# Altium schematic symbol library mw.SchLib: 179 symbols (part 2 of 2)
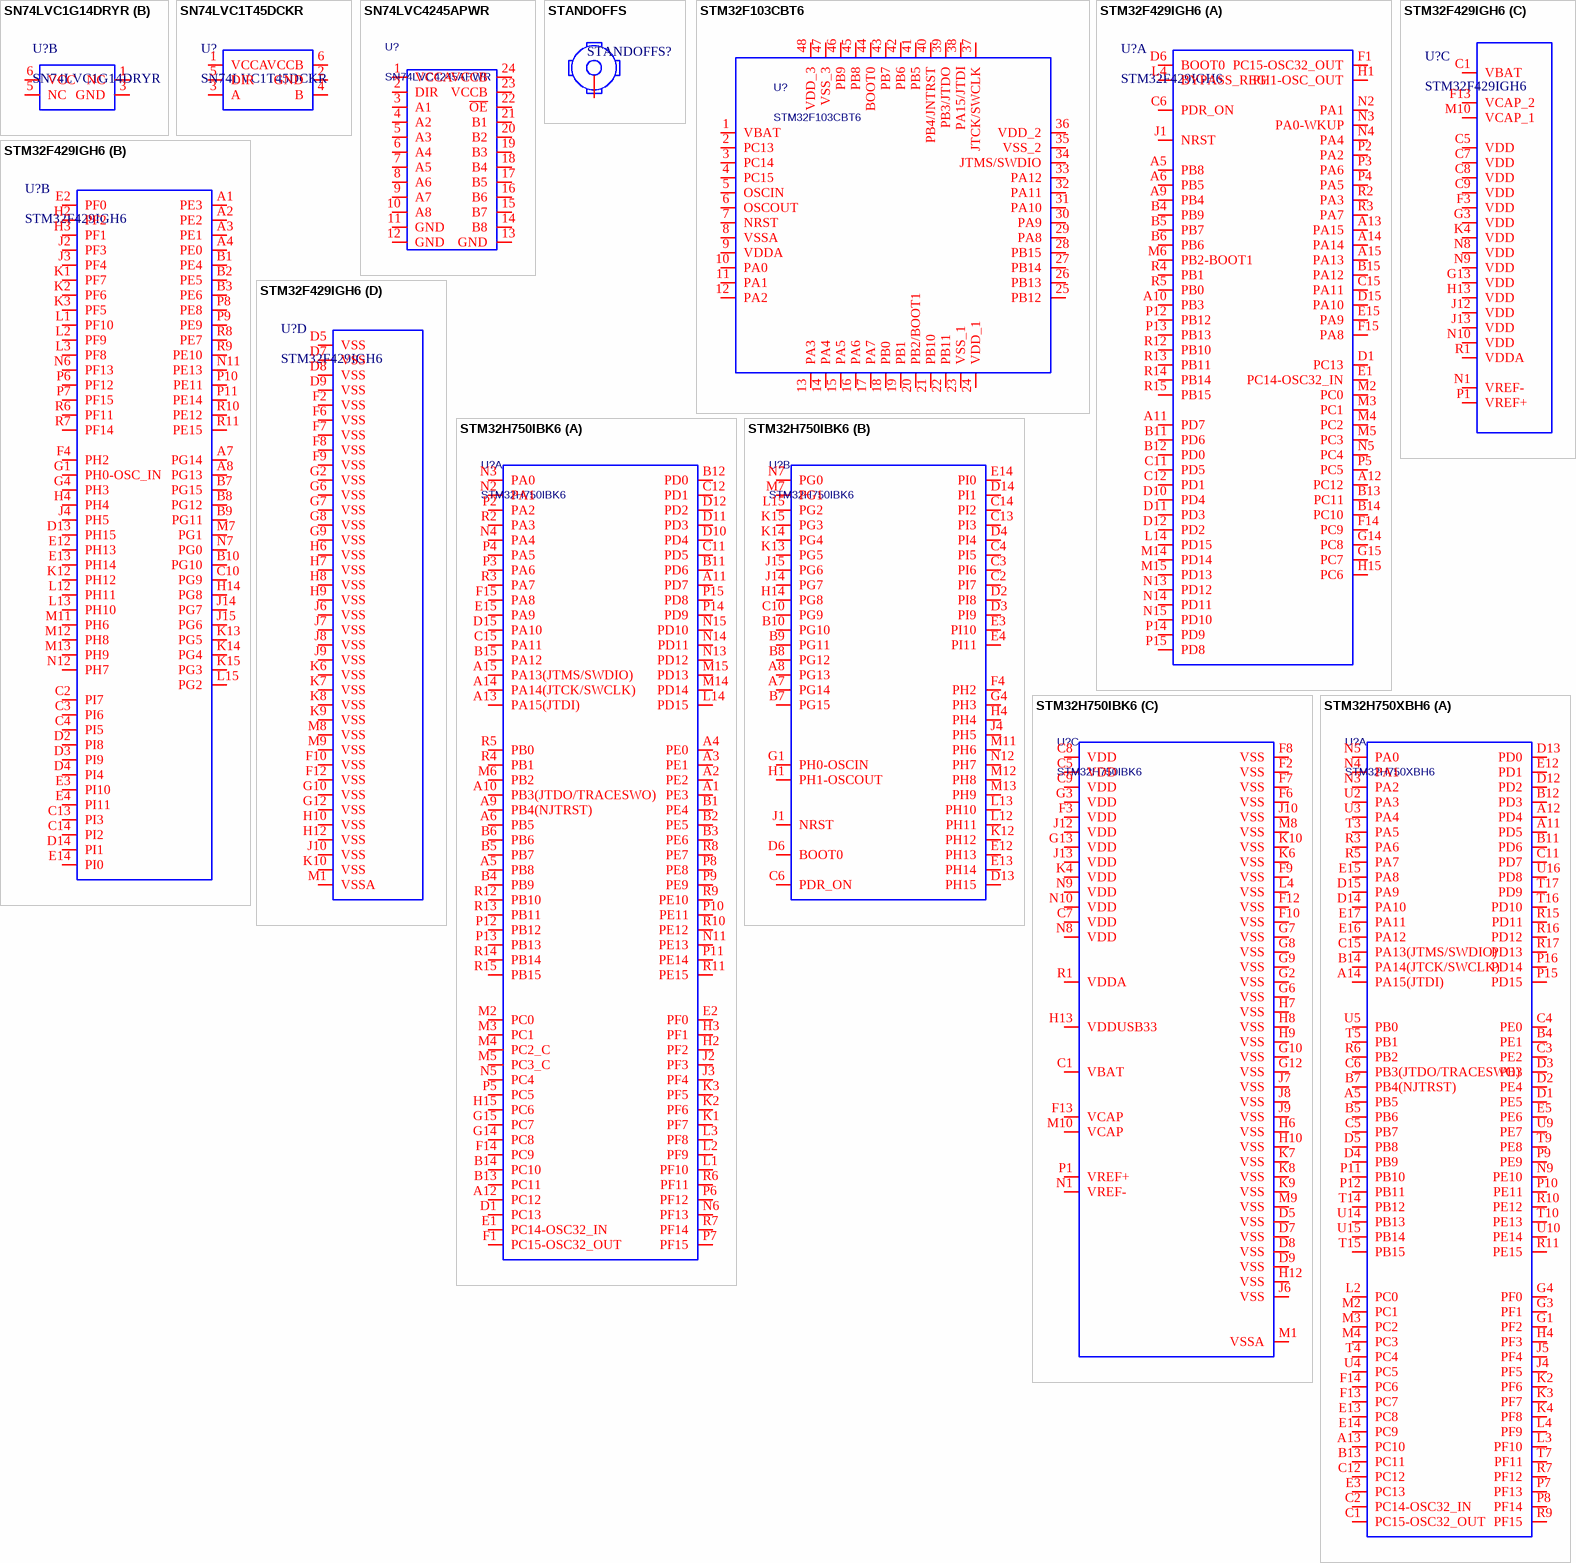
[diagram p8: symbols SN74LVC1G14DRYR to STM32H750XBH6]

## SN74LVC1G14DRYR
designator U?
INVERTER - 1bit schmitt; Supplier 1: LCSC; Supplier Part Number 1: C2878125
footprint SN74LVC1G14DRYR (PSON, 6-Leads, Body 1.45x1.00mm, Pitch 0.50mm, IPC Medium Density)
part A pins: 2 A, 4 Y
part B pins: 1 NC, 3 GND, 5 NC, 6 VCC

## SN74LVC1T45DCKR
designator U?
LEVEL SHIFT - 1bit, 1.65 - 5.5V, 420Mbps; Supplier 1: LCSC; Supplier Part Number 1: C9382
footprint SN74LVC1T45DCKR
pins: 1 VCCA, 2 GND, 3 A, 4 B, 5 DIR, 6 VCCB

## SN74LVC4245APWR
designator U?
LEVEL SHIFT; Supplier 1: LCSC; Supplier Part Number 1: C7859
footprint SN74LVC4245APWR (TSOP, 24-Leads, Body 7.80x4.47mm, Pitch 0.65mm, IPC High Density)
pins: 1 VCCA, 2 DIR, 3 A1, 4 A2, 5 A3, 6 A4, 7 A5, 8 A6, 9 A7, 10 A8, 11 GND, 12 GND, 13 GND, 14 B8, 15 B7, 16 B6, 17 B5, 18 B4, 19 B3, 20 B2, 21 B1, 22 ~{OE}, 23 VCCB, 24 VCCB

## STANDOFFS
designator STANDOFFS?
footprint STANDOFFS-5-2.5 (外径5 台阶外径2.5)
pins: 0

## STM32F103CBT6
designator U?
MCU; Supplier 1: LCSC; Supplier Part Number 1: C8304
footprint STM32F103CBT6
pins: 1 VBAT, 2 PC13, 3 PC14, 4 PC15, 5 OSCIN, 6 OSCOUT, 7 NRST, 8 VSSA, 9 VDDA, 10 PA0, 11 PA1, 12 PA2, 13 PA3, 14 PA4, 15 PA5, 16 PA6, 17 PA7, 18 PB0, 19 PB1, 20 PB2/BOOT1, 21 PB10, 22 PB11, 23 VSS_1, 24 VDD_1, 25 PB12, 26 PB13, 27 PB14, 28 PB15, 29 PA8, 30 PA9, 31 PA10, 32 PA11, 33 PA12, 34 JTMS/SWDIO, 35 VSS_2, 36 VDD_2, 37 JTCK/SWCLK, 38 PA15/JTDI, 39 PB3/JTDO, 40 PB4/JNTRST, 41 PB5, 42 PB6, 43 PB7, 44 BOOT0, 45 PB8, 46 PB9, 47 VSS_3, 48 VDD_3

## STM32F429IGH6
designator U?
MCU; Supplier 1: LCSC; Supplier Part Number 1: C1337486
footprint STM32F429IGH6 (BGA176, Pitch 0.65mm, 10mmx10mm)
part A pins: A5 PB8, A6 PB5, A9 PB4, A10 PB3, A11 PD7, A12 PC12, A13 PA15, A14 PA14, A15 PA13, B4 PB9, B5 PB7, B6 PB6, B11 PD6, B12 PD0, B13 PC11, B14 PC10, B15 PA12, C6 PDR_ON, C11 PD5, C12 PD1, C15 PA11, D1 PC13, D6 BOOT0, D10 PD4, D11 PD3, D12 PD2, D15 PA10, E1 PC14-OSC32_IN, E15 PA9, F1 PC15-OSC32_OUT, F14 PC9, F15 PA8, G14 PC8, G15 PC7, H1 PH1-OSC_OUT, H15 PC6, J1 NRST, L4 BYPASS_REG, L14 PD15, M2 PC0, M3 PC1, M4 PC2, M5 PC3, M6 PB2-BOOT1, M14 PD14, M15 PD13, N2 PA1, N3 PA0-WKUP, N4 PA4, N5 PC4, N13 PD12, N14 PD11, N15 PD10, P2 PA2, P3 PA6, P4 PA5, P5 PC5, P12 PB12, P13 PB13, P14 PD9, P15 PD8, R2 PA3, R3 PA7, R4 PB1, R5 PB0, R12 PB10, R13 PB11, R14 PB14, R15 PB15
part B pins: A1 PE3, A2 PE2, A3 PE1, A4 PE0, A7 PG14, A8 PG13, B1 PE4, B2 PE5, B3 PE6, B7 PG15, B8 PG12, B9 PG11, B10 PG10, C2 PI7, C3 PI6, C4 PI5, C10 PG9, C13 PI3, C14 PI2, D2 PI8, D3 PI9, D4 PI4, D13 PH15, D14 PI1, E2 PF0, E3 PI10, E4 PI11, E12 PH13, E13 PH14, E14 PI0, F4 PH2, G1 PH0-OSC_IN, G4 PH3, H2 PF2, H3 PF1, H4 PH4, H14 PG8, J2 PF3, J3 PF4, J4 PH5, J14 PG7, J15 PG6, K1 PF7, K2 PF6, K3 PF5, K12 PH12, K13 PG5, K14 PG4, K15 PG3, L1 PF10, L2 PF9, L3 PF8, L12 PH11, L13 PH10, L15 PG2, M7 PG1, M11 PH6, M12 PH8, M13 PH9, N6 PF13, N7 PG0, N11 PE13, N12 PH7, P6 PF12, P7 PF15, P8 PE8, P9 PE9, P10 PE11, P11 PE14, R6 PF11, R7 PF14, R8 PE7, R9 PE10, R10 PE12, R11 PE15
part C pins: C1 VBAT (power), C5 VDD (power), C7 VDD (power), C8 VDD (power), C9 VDD (power), F3 VDD (power), F13 VCAP_2 (power), G3 VDD (power), G13 VDD (power), H13 VDD (power), J12 VDD (power), J13 VDD (power), K4 VDD (power), M10 VCAP_1 (power), N1 VREF- (power), N8 VDD (power), N9 VDD (power), N10 VDD (power), P1 VREF+ (power), R1 VDDA (power)
part D pins: D5 VSS (power), D7 VSS (power), D8 VSS (power), D9 VSS (power), F2 VSS (power), F6 VSS (power), F7 VSS (power), F8 VSS (power), F9 VSS (power), F10 VSS (power), F12 VSS (power), G2 VSS (power), G6 VSS (power), G7 VSS (power), G8 VSS (power), G9 VSS (power), G10 VSS (power), G12 VSS (power), H6 VSS (power), H7 VSS (power), H8 VSS (power), H9 VSS (power), H10 VSS (power), H12 VSS (power), J6 VSS (power), J7 VSS (power), J8 VSS (power), J9 VSS (power), J10 VSS (power), K6 VSS (power), K7 VSS (power), K8 VSS (power), K9 VSS (power), K10 VSS (power), M1 VSSA (power), M8 VSS (power), M9 VSS (power)

## STM32H750IBK6
designator U?
MCU; Supplier 1: LCSC; Supplier Part Number 1: C730200
footprint STM32H750IBK6
part A pins: A1 PE3, A2 PE2, A3 PE1, A4 PE0, A5 PB8, A6 PB5, A9 PB4(NJTRST), A10 PB3(JTDO/TRACESWO), A11 PD7, A12 PC12, A13 PA15(JTDI), A14 PA14(JTCK/SWCLK), A15 PA13(JTMS/SWDIO), B1 PE4, B2 PE5, B3 PE6, B4 PB9, B5 PB7, B6 PB6, B11 PD6, B12 PD0, B13 PC11, B14 PC10, B15 PA12, C11 PD5, C12 PD1, C15 PA11, D1 PC13, D10 PD4, D11 PD3, D12 PD2, D15 PA10, E1 PC14-OSC32_IN, E2 PF0, E15 PA9, F1 PC15-OSC32_OUT, F14 PC9, F15 PA8, G14 PC8, G15 PC7, H2 PF2, H3 PF1, H15 PC6, J2 PF3, J3 PF4, K1 PF7, K2 PF6, K3 PF5, L1 PF10, L2 PF9, L3 PF8, L14 PD15, M2 PC0, M3 PC1, M4 PC2_C, M5 PC3_C, M6 PB2, M14 PD14, M15 PD13, N2 PA1, N3 PA0, N4 PA4, N5 PC4, N6 PF13, N11 PE13, N13 PD12, N14 PD11, N15 PD10, P2 PA2, P3 PA6, P4 PA5, P5 PC5, P6 PF12, P7 PF15, P8 PE8, P9 PE9, P10 PE11, P11 PE14, P12 PB12, P13 PB13, P14 PD9, P15 PD8, R2 PA3, R3 PA7, R4 PB1, R5 PB0, R6 PF11, R7 PF14, R8 PE7, R9 PE10, R10 PE12, R11 PE15, R12 PB10, R13 PB11, R14 PB14, R15 PB15
part B pins: A7 PG14, A8 PG13, B7 PG15, B8 PG12, B9 PG11, B10 PG10, C2 PI7, C3 PI6, C4 PI5, C6 PDR_ON, C10 PG9, C13 PI3, C14 PI2, D2 PI8, D3 PI9, D4 PI4, D6 BOOT0, D13 PH15, D14 PI1, E3 PI10, E4 PI11, E12 PH13, E13 PH14, E14 PI0, F4 PH2, G1 PH0-OSCIN, G4 PH3, H1 PH1-OSCOUT, H4 PH4, H14 PG8, J1 NRST, J4 PH5, J14 PG7, J15 PG6, K12 PH12, K13 PG5, K14 PG4, K15 PG3, L12 PH11, L13 PH10, L15 PG2, M7 PG1, M11 PH6, M12 PH8, M13 PH9, N7 PG0, N12 PH7
part C pins: C1 VBAT, C5 VDD, C7 VDD, C8 VDD, C9 VDD, D5 VSS, D7 VSS, D8 VSS, D9 VSS, F2 VSS, F3 VDD, F6 VSS, F7 VSS, F8 VSS, F9 VSS, F10 VSS, F12 VSS, F13 VCAP, G2 VSS, G3 VDD, G6 VSS, G7 VSS, G8 VSS, G9 VSS, G10 VSS, G12 VSS, G13 VDD, H6 VSS, H7 VSS, H8 VSS, H9 VSS, H10 VSS, H12 VSS, H13 VDDUSB33, J6 VSS, J7 VSS, J8 VSS, J9 VSS, J10 VSS, J12 VDD, J13 VDD, K4 VDD, K6 VSS, K7 VSS, K8 VSS, K9 VSS, K10 VSS, L4 VSS, M1 VSSA, M8 VSS, M9 VSS, M10 VCAP, N1 VREF-, N8 VDD, N9 VDD, N10 VDD, P1 VREF+, R1 VDDA

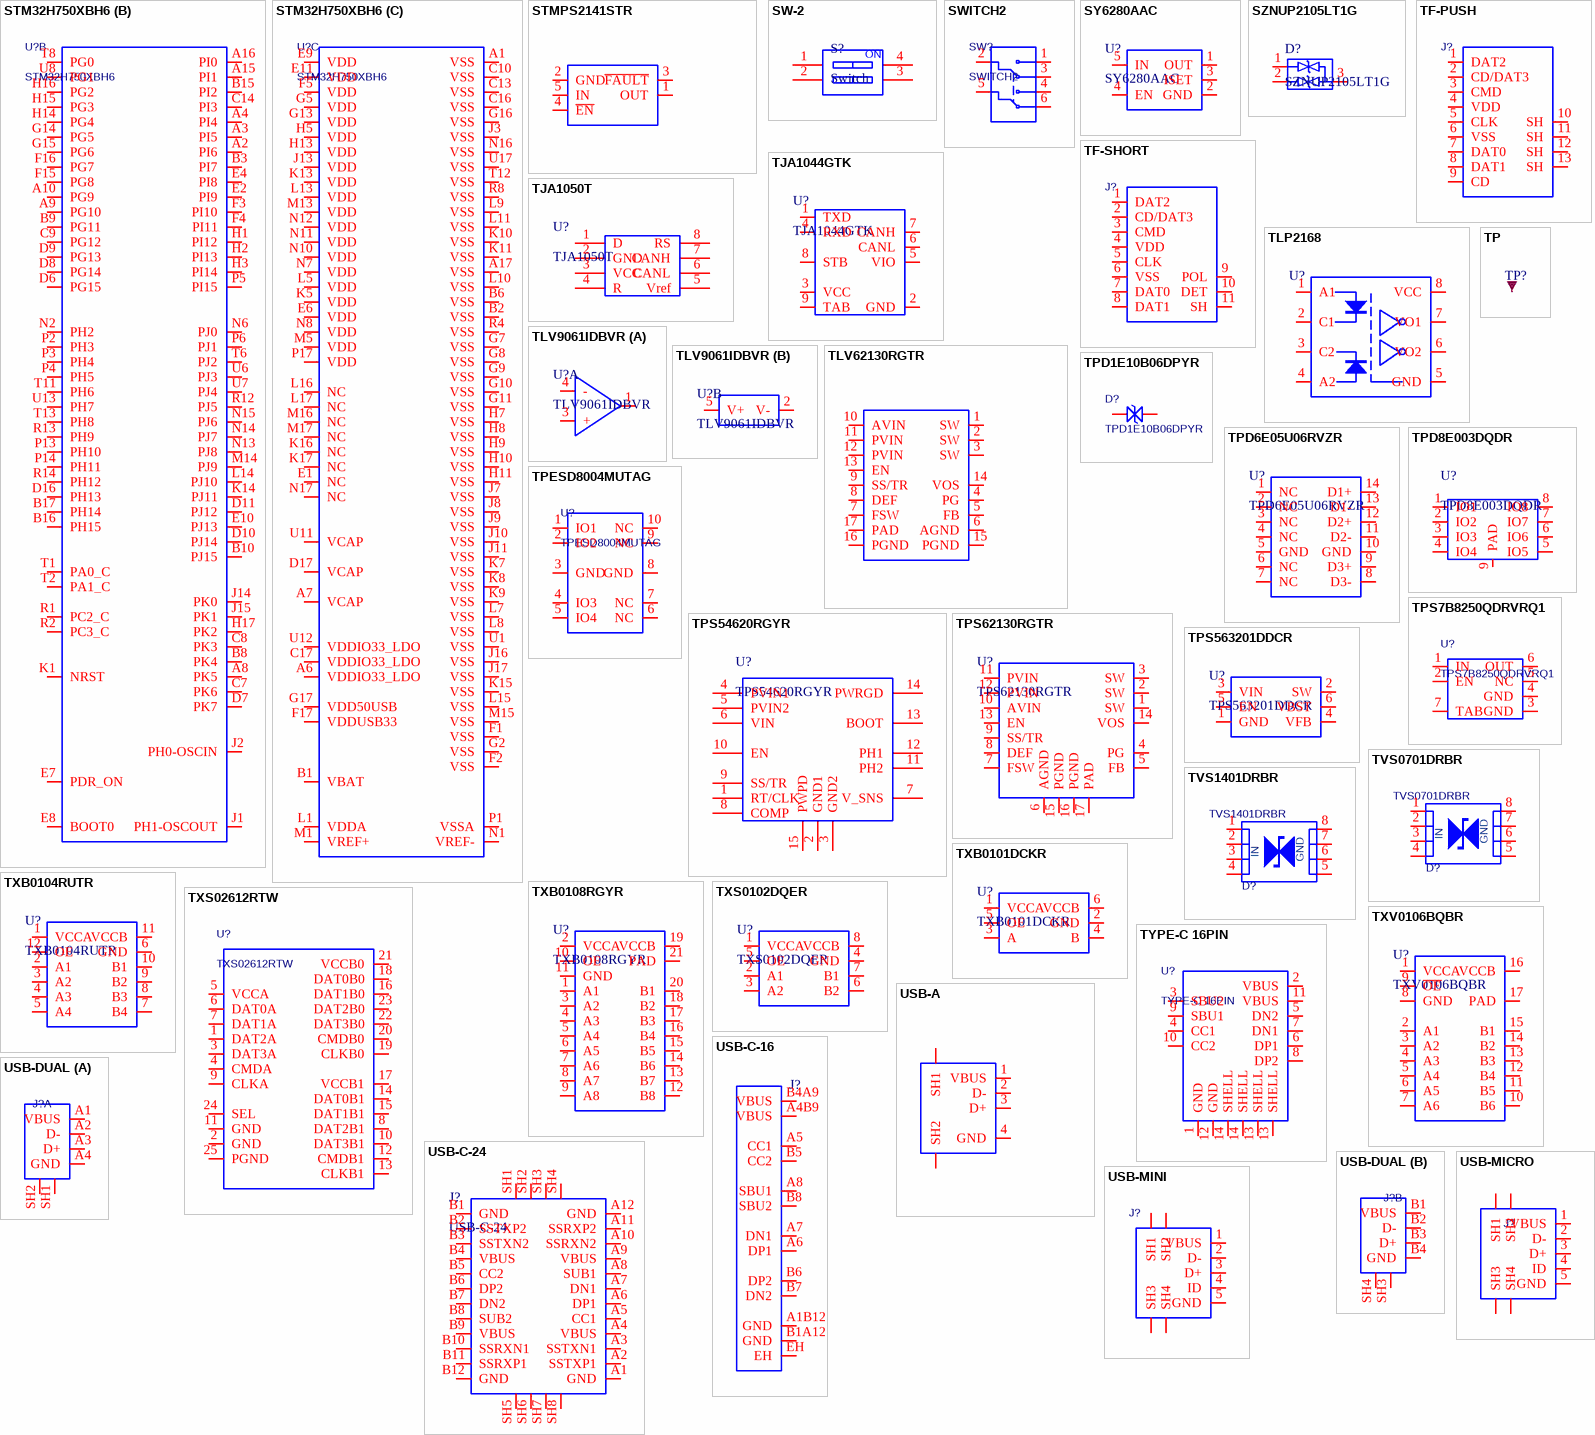
[diagram p6: symbols STM32H750XBH6 to USB-MINI]

## STM32H750XBH6
designator U?
MCU; Supplier 1: LCSC; Supplier Part Number 1: C405932
footprint STM32H750XBH6 (BGA, 265-Leads, Body 14.00x14.00mmx1.20mm, Pitch 0.80mm)
part A pins: A5 PB5, A11 PD5, A12 PD4, A13 PC10, A14 PA15(JTDI), B4 PE1, B5 PB6, B7 PB4(NJTRST), B11 PD6, B12 PD3, B13 PC11, B14 PA14(JTCK/SWCLK), C1 PC15-OSC32_OUT, C2 PC14-OSC32_IN, C3 PE2, C4 PE0, C5 PB7, C6 PB3(JTDO/TRACESWO), C11 PD7, C12 PC12, C15 PA13(JTMS/SWDIO), D1 PE5, D2 PE4, D3 PE3, D4 PB9, D5 PB8, D12 PD2, D13 PD0, D14 PA10, D15 PA9, E3 PC13, E5 PE6, E12 PD1, E13 PC8, E14 PC9, E15 PA8, E16 PA12, E17 PA11, F13 PC7, F14 PC6, G1 PF2, G3 PF1, G4 PF0, H4 PF3, J4 PF5, J5 PF4, K2 PF6, K3 PF7, K4 PF8, L2 PC0, L3 PF10, L4 PF9, M2 PC1, M3 PC2, M4 PC3, N3 PA2, N4 PA1, N5 PA0, N9 PE10, P7 PF13, P8 PF14, P9 PE9, P10 PE11, P11 PB10, P12 PB11, P15 PD15, P16 PD14, R3 PA6, R5 PA7, R6 PB2, R7 PF12, R9 PF15, R10 PE12, R11 PE15, R15 PD11, R16 PD12, R17 PD13, T3 PA5, T4 PC4, T5 PB1, T7 PF11, T9 PE8, T10 PE13, T14 PB12, T15 PB15, T16 PD10, T17 PD9, U2 PA3, U3 PA4, U4 PC5, U5 PB0, U9 PE7, U10 PE14, U14 PB13, U15 PB14, U16 PD8
part B pins: A2 PI6, A3 PI5, A4 PI4, A8 PK5, A9 PG10, A10 PG9, A15 PI1, A16 PI0, B3 PI7, B8 PK4, B9 PG11, B10 PJ15, B15 PI2, B16 PH15, B17 PH14, C7 PK6, C8 PK3, C9 PG12, C14 PI3, D6 PG15, D7 PK7, D8 PG14, D9 PG13, D10 PJ14, D11 PJ12, D16 PH13, E2 PI9, E4 PI8, E7 PDR_ON, E8 BOOT0, E10 PJ13, F3 PI10, F4 PI11, F15 PG8, F16 PG7, G14 PG5, G15 PG6, H1 PI12, H2 PI13, H3 PI14, H14 PG4, H15 PG3, H16 PG2, H17 PK2, J1 PH1-OSCOUT, J2 PH0-OSCIN, J14 PK0, J15 PK1, K1 NRST, K14 PJ11, L14 PJ10, M14 PJ9, N2 PH2, N6 PJ0, N13 PJ8, N14 PJ7, N15 PJ6, P2 PH3, P3 PH4, P4 PH5, P5 PI15, P6 PJ1, P13 PH10, P14 PH11, R1 PC2_C, R2 PC3_C, R12 PJ5, R13 PH9, R14 PH12, T1 PA0_C, T2 PA1_C, T6 PJ2, T8 PG0, T11 PH6, T13 PH8, U6 PJ3, U7 PJ4, U8 PG1, U13 PH7
part C pins: A1 VSS, A6 VDDIO33_LDO, A7 VCAP, A17 VSS, B1 VBAT, B2 VSS, B6 VSS, C10 VSS, C13 VSS, C16 VSS, C17 VDDIO33_LDO, D17 VCAP, E1 NC, E6 VDD, E9 VDD, E11 VDD, F1 VSS, F2 VSS, F5 VDD, F17 VDDUSB33, G2 VSS, G5 VDD, G7 VSS, G8 VSS, G9 VSS, G10 VSS, G11 VSS, G13 VDD, G16 VSS, G17 VDD50USB, H5 VDD, H7 VSS, H8 VSS, H9 VSS, H10 VSS, H11 VSS, H13 VDD, J3 VSS, J7 VSS, J8 VSS, J9 VSS, J10 VSS, J11 VSS, J13 VDD, J16 VSS, J17 VSS, K5 VDD, K7 VSS, K8 VSS, K9 VSS, K10 VSS, K11 VSS, K13 VDD, K15 VSS, K16 NC, K17 NC, L1 VDDA, L5 VDD, L7 VSS, L8 VSS, L9 VSS, L10 VSS, L11 VSS, L13 VDD, L15 VSS, L16 NC, L17 NC, M1 VREF+, M5 VDD, M13 VDD, M15 VSS, M16 NC, M17 NC, N1 VREF-, N7 VDD, N8 VDD, N10 VDD, N11 VDD, N12 VDD, N16 VSS, N17 NC, P1 VSSA, P17 VDD, R4 VSS, R8 VSS, T12 VSS, U1 VSS, U11 VCAP, U12 VDDIO33_LDO, U17 VSS

## STMPS2141STR
designator U?
PWR SWITCH; Supplier 1: LCSC; Supplier Part Number 1: C54624
footprint STMPS2141STR (SOT23, 5-Leads, Body 2.90x2.80mm, Pitch 0.95mm, IPC High Density)
pins: 1 OUT, 2 GND, 3 ~{FAULT}, 4 ~{EN}, 5 IN

## SW-2
designator S?, comment Switch
Supplier 1: LCSC; Supplier Part Number 1: C224995
footprint DHN02VTR (2 switch)
pins: 1 A1, 2 A2, 3 B2, 4 B1
text: ON

## SWITCH2
designator SW?
Supplier 1: LCSC; Supplier Part Number 1: C2681587
footprint BUTTON-5.8-6P
pins: 1, 2, 3, 4, 5, 6

## SY6280AAC
designator U?
PWR SWITCH; Supplier 1: LCSC; Supplier Part Number 1: C55136
footprint SY6280AAC (SOT23, 5-Leads, Body 2.95x2.85mm, Pitch 0.95mm, IPC Medium Density)
pins: 1 OUT, 2 GND, 3 ISET, 4 EN, 5 IN

## SZNUP2105LT1G
designator D?
TVS/ESD; Supplier 1: LCSC; Supplier Part Number 1: C233494
footprint SZNUP2105LT1G
pins: 1, 2, 3

## TF-PUSH
designator J?  (value not drawn)
SOCKET - MicroSD socket with spring and detection; Supplier 1: LCSC; Supplier Part Number 1: C393941
footprint TF-PUSH
pins: 1 DAT2, 2 CD/DAT3, 3 CMD, 4 VDD, 5 CLK, 6 VSS, 7 DAT0, 8 DAT1, 9 CD, 10 SH, 11 SH, 12 SH, 13 SH

## TF-SHORT
designator J?  (value not drawn)
SOCKET - MicroSD socket with detction; Supplier 1: LCSC; Supplier Part Number 1: C50380694
footprint TF-SHORT
pins: 1 DAT2, 2 CD/DAT3, 3 CMD, 4 VDD, 5 CLK, 6 VSS, 7 DAT0, 8 DAT1, 9 POL, 10 DET, 11 SH

## TJA1044GTK
designator U?
CAN; Supplier 1: LCSC; Supplier Part Number 1: C2157795
footprint TJA1044GTK/3
pins: 1 TXD, 2 GND, 3 VCC, 4 RXD, 5 VIO, 6 CANL, 7 CANH, 8 STB, 9 TAB

## TJA1050T
designator U?
CAN; Supplier 1: LCSC; Supplier Part Number 1: C6952
footprint TJA1050
pins: 1 D, 2 GND, 3 VCC, 4 R, 5 Vref, 6 CANL, 7 CANH, 8 RS

## TLP2168
designator U?  (value not drawn)
OPTICAL COUPLER; Supplier 1: LCSC; Supplier Part Number 1: C99480
footprint TLP2168
pins: 1 A1, 2 C1, 3 C2, 4 A2, 5 GND, 6 VO2, 7 VO1, 8 VCC

## TLV9061IDBVR
designator U?
OPA - 1ch, 1.8V - 5.5V, r2r, 0.3mV, 10MHz, 10nVHz^0.5, 0.5pA; Supplier 1: LCSC; Supplier Part Number 1: C398358
footprint TLV9061IDBVR (SOT23, 5-Leads, Body 2.90x2.80mm, Pitch 0.95mm, IPC Medium Density)
part A pins: 1 OUT, 3 +, 4 -
part B pins: 2 V-, 5 V+

## TLV62130RGTR
designator U?  (value not drawn)
BUCK; Supplier 1: LCSC; Supplier Part Number 1: C122479
footprint TLV62130 (PQFN, 16-Leads, Body 3.00x3.00mm, Pitch 0.50mm, Thermal Pad 1.68x1.68mm, IPC High Density)
pins: 1 SW, 2 SW, 3 SW, 4 PG, 5 FB, 6 AGND, 7 FSW, 8 DEF, 9 SS/TR, 10 AVIN, 11 PVIN, 12 PVIN, 13 EN, 14 VOS, 15 PGND, 16 PGND, 17 PAD

## TP
designator TP?
footprint TP
pins: 0

## TPD1E10B06DPYR
designator D?
TVS/ESD - 1 ch, 5.5V, 6V, 12pF@1MHz, 30KV; Supplier 1: LCSC; Supplier Part Number 1: C48260
footprint TPD1E10B06DPYR (Footprint not found)
pins: 1, 2

## TPD6E05U06RVZR
designator U?
TVS/ESD - 6 ch, 5.5V, 6.5V, 0.47pF@1MHz, 12KV
pins: 1 NC, 2 NC, 3 NC, 4 NC, 5 GND, 6 NC, 7 NC, 8 D3-, 9 D3+, 10 GND, 11 D2-, 12 D2+, 13 D1-, 14 D1+

## TPD8E003DQDR
designator U?
TVS/ESD - 8 ch, 5.5V, 6V, 9pF@1MHz, 12KV; Supplier 1: LCSC; Supplier Part Number 1: C2867469
footprint TPD8E003 (SON, 8-Leads, Body 1.70x1.35mm, Pitch 0.40mm, Thermal Pad 1.20x0.40mm, IPC High Density)
pins: 1 IO1, 2 IO2, 3 IO3, 4 IO4, 5 IO5, 6 IO6, 7 IO7, 8 IO8, 9 PAD

## TPESD8004MUTAG
designator U?
TVS/ESD - 4 ch, 3.3V, ?V, 0.1pF@1MHz, 15KV; Supplier 1: LCSC; Supplier Part Number 1: C2827679
footprint TPESD8004MUTAG
pins: 1 IO1, 2 IO2, 3 GND, 4 IO3, 5 IO4, 6 NC, 7 NC, 8 GND, 9 NC, 10 NC

## TPS7B8250QDRVRQ1
designator U?
LDO; Supplier 1: LCSC; Supplier Part Number 1: C2862522
footprint TPS7B8250QDRVRQ1 (SON, 6-Leads, Body 2.00x2.00mm, Pitch 0.65mm, Thermal Pad 1.60x0.89mm, IPC High Density)
pins: 1 IN, 2 EN, 3 GND, 4 GND, 5 NC, 6 OUT, 7 TAB

## TPS54620RGYR
designator U?
BUCK; Supplier 1: LCSC; Supplier Part Number 1: C29438
footprint TPS54620 (VQFN_3_5)
pins: 1 RT/CLK, 2 GND1, 3 GND2, 4 PVIN1, 5 PVIN2, 6 VIN, 7 V_SNS, 8 COMP, 9 SS/TR, 10 EN, 11 PH2, 12 PH1, 13 BOOT, 14 PWRGD, 15 PWPD

## TPS62130RGTR
designator U?
BUCK; Supplier 1: LCSC; Supplier Part Number 1: C43590
footprint TPS62130RGTR (PQFN, 16-Leads, Body 3.00x3.00mm, Pitch 0.50mm, Thermal Pad 1.68x1.68mm, IPC Medium Density)
pins: 1 SW "Switch node, which is connected to the internal MOSFET switches. Connect an inductor between SW and the output capacitor.", 2 SW "Switch node, which is connected to the internal MOSFET switches. Connect an inductor between SW and the output capacitor.", 3 SW "Switch node, which is connected to the internal MOSFET switches. Connect an inductor between SW and the output capacitor.", 4 PG "Output power good (High = VOUT ready, Low = VOUT below nominal regulation); open drain (requires pullup resistor)", 5 FB "Voltage feedback of adjustable version. Connect a resistive voltage divider to this pin. It is recommended to connect FB to AGND on fixed output voltage versions for improved thermal performance.", 6 AGND "Analog Ground. Must be connected directly to the Exposed Thermal Pad and common ground plane.", 7 FSW "Switching Frequency Select (Low ≈ 2.5 MHz, High ≈ 1.25 MHz for typical operation)", 8 DEF "Output voltage scaling (Low = nominal, High = nominal + 5%)", 9 SS/TR "Soft-Start/Tracking Pin. An external capacitor connected to this pin sets the internal voltage reference rise time. It can be used for tracking and sequencing.", 10 AVIN "Supply voltage for control circuitry. Connect to the same source as PVIN", 11 PVIN "Supply voltage for power stage. Connect to the same source as AVIN.", 12 PVIN "Supply voltage for power stage. Connect to the same source as AVIN.", 13 EN "Enable input (High = enabled, Low = disabled)", 14 VOS "Output voltage sense pin and connection for the control loop circuitry", 15 PGND "Power Ground. Must be connected directly to the Exposed Thermal Pad and common ground plane.", 16 PGND "Power Ground. Must be connected directly to the Exposed Thermal Pad and common ground plane.", 17 PAD

## TPS563201DDCR
designator U?
BUCK; Supplier 1: LCSC; Supplier Part Number 1: C116592
footprint TPS563201DDCR (SOT23, 6-Leads, Body 2.90x2.80mm, Pitch 0.95mm, IPC High Density)
pins: 1 GND, 2 SW, 3 VIN, 4 VFB, 5 EN, 6 VBST

## TVS0701DRBR
designator D?
TVS/ESD - 1 ch, 7V, 10V, 11V@30A; Supplier 1: LCSC; Supplier Part Number 1: C2873147
footprint TVS0701 (SON, 8-Leads, Body 3.00x3.00mm, Pitch 0.65mm, Thermal Pad 1.20x0.40mm, IPC High Density)
pins: 1 IN, 2 IN, 3 IN, 4 IN, 5 GND, 6 GND, 7 GND, 8 GND

## TVS1401DRBR
designator D?
TVS/ESD - 1 ch, 14V, 17.6V, 20.5V@30A; Supplier 1: LCSC; Supplier Part Number 1: C1849891
footprint TVS1401 (SON, 8-Leads, Body 3.00x3.00mm, Pitch 0.65mm, Thermal Pad 1.20x0.40mm, IPC High Density)
pins: 1 IN, 2 IN, 3 IN, 4 IN, 5 GND, 6 GND, 7 GND, 8 GND

## TXB0101DCKR
designator U?
LEVEL SHIFT - 1bit, autodir, 1.2V - 3.6V, 1.65V - 5.5V, 100Mbps; Supplier 1: LCSC; Supplier Part Number 1: C324081
footprint TXB0101DCKR (SOT23, 6-Leads, Body 2.00x2.10mm, Pitch 0.65mm, IPC Medium Density)
pins: 1 VCCA, 2 GND, 3 A, 4 B, 5 OE, 6 VCCB

## TXB0104RUTR
designator U?
LEVEL SHIFT - 4bits, autodir, 1.2V - 3.6V, 1.65V - 5.5V, 100Mbps; Supplier 1: LCSC; Supplier Part Number 1: C105266
footprint TXB0104RUTR (QFN, 12-Leads, Body 1.70x2.00mm, Pitch 0.40mm, IPC Medium Density)
pins: 1 VCCA, 2 A1, 3 A2, 4 A3, 5 A4, 6 GND, 7 B4, 8 B3, 9 B2, 10 B1, 11 VCCB, 12 OE

## TXB0108RGYR
designator U?
LEVEL SHIFT - 8bits, autodir, 1.2V - 3.6V, 1.65V - 5.5V, 100Mbps; Supplier 1: LCSC; Supplier Part Number 1: C194701
footprint TXB0108RGYR (QFN, 20-Leads, Body 3.50x4.50mm, Pitch 1.50mm/0.50mm, Thermal Pad 2.05x3.05mm, IPC Medium Density)
pins: 1 A1, 2 VCCA, 3 A2, 4 A3, 5 A4, 6 A5, 7 A6, 8 A7, 9 A8, 10 OE, 11 GND, 12 B8, 13 B7, 14 B6, 15 B5, 16 B4, 17 B3, 18 B2, 19 VCCB, 20 B1, 21 PAD

## TXS0102DQER
designator U?
LEVEL SHIFT - 2bits, autodir, 1.65V - 3.6V, 2.3V - 5.5V, 24Mbps; Supplier Part Number 1: C2652935; Supplier 1: LCSC
footprint TXS0102DQER (SON, 8-Leads, Body 1.40x1.00mm, Pitch 0.35mm, IPC Medium Density)
pins: 1 VCCA, 2 A1, 3 A2, 4 GND, 5 OE, 6 B2, 7 B1, 8 VCCB

## TXS02612RTW
designator U?
DUAL SDIO; Supplier 1: LCSC; Supplier Part Number 1: C140276
footprint TXS02612TWR (PQFN, 24-Leads, Body 4.00x4.00mm, Pitch 0.50mm, Thermal Pad 2.45x2.45mm, IPC High Density)
pins: 1 DAT2A, 2 GND, 3 DAT3A, 4 CMDA, 5 VCCA, 6 DAT0A, 7 DAT1A, 8 DAT2B1, 9 CLKA, 10 DAT3B1, 11 GND, 12 CMDB1, 13 CLKB1, 14 DAT0B1, 15 DAT1B1, 16 DAT1B0, 17 VCCB1, 18 DAT0B0, 19 CLKB0, 20 CMDB0, 21 VCCB0, 22 DAT3B0, 23 DAT2B0, 24 SEL, 25 PGND

## TXV0106BQBR
designator U?
LEVEL SHIFT - 6bits, fixdir, 1.2 - 3.6V, 500Mbps; Supplier 1: LCSC; Supplier Part Number 1: C22414342
footprint TXV0106BQBR (QFN, 16-Leads, Body 2.50x3.50mm, Pitch 0.50mm, Thermal Pad 1.00x2.00mm, IPC Medium Density)
pins: 1 VCCA, 2 A1, 3 A2, 4 A3, 5 A4, 6 A5, 7 A6, 8 GND, 9 ~{OE}, 10 B6, 11 B5, 12 B4, 13 B3, 14 B2, 15 B1, 16 VCCB, 17 PAD

## TYPE-C 16PIN
designator U?
Supplier 1: LCSC; Supplier Part Number 1: C2765186
footprint USB-C-SMD_TYPE-C-6PIN-2MD-073
pins: 1 GND, 2 VBUS, 3 SBU2, 4 CC1, 5 DN2, 6 DP1, 7 DN1, 8 DP2, 9 SBU1, 10 CC2, 11 VBUS, 12 GND, 13 SHELL, 13 SHELL, 14 SHELL, 14 SHELL

## USB-A
designator J?, comment USBA  (value not drawn)
Supplier 1: LCSC; Supplier Part Number 1: C283550
footprint USB-A
pins: 1 VBUS, 2 D-, 3 D+, 4 GND, SH1, SH2

## USB-C-16
designator J?  (value not drawn)
Supplier 1: LCSC; Supplier Part Number 1: C165948
footprint USB-C-16
pins: A1B12 GND, A4B9 VBUS, A5 CC1, A6 DP1, A7 DN1, A8 SBU1, B1A12 GND, B4A9 VBUS, B5 CC2, B6 DP2, B7 DN2, B8 SBU2, EH

## USB-C-24
designator J?
Supplier 1: LCSC; Supplier Part Number 1: C129018
footprint USB-C-24
pins: A1 GND, A2 SSTXP1, A3 SSTXN1, A4 VBUS, A5 CC1, A6 DP1, A7 DN1, A8 SUB1, A9 VBUS, A10 SSRXN2, A11 SSRXP2, A12 GND, B1 GND, B2 SSTXP2, B3 SSTXN2, B4 VBUS, B5 CC2, B6 DP2, B7 DN2, B8 SUB2, B9 VBUS, B10 SSRXN1, B11 SSRXP1, B12 GND, SH1, SH2, SH3, SH4, SH5, SH6, SH7, SH8

## USB-DUAL
designator J?  (value not drawn)
Supplier 1: LCSC; Supplier Part Number 1: C12049
footprint USB-DUAL
part A pins: A1 VBUS, A2 D-, A3 D+, A4 GND, SH1, SH2
part B pins: B1 VBUS, B2 D-, B3 D+, B4 GND, SH3, SH4

## USB-MICRO
designator J?  (value not drawn)
Supplier 1: LCSC; Supplier Part Number 1: C2689960
footprint USB-MICRO
pins: 1 VBUS, 2 D-, 3 D+, 4 ID, 5 GND, SH1, SH2, SH3, SH4

## USB-MINI
designator J?  (value not drawn)
Supplier 1: LCSC; Supplier Part Number 1: C91144
footprint USB-MINI
pins: 1 VBUS, 2 D-, 3 D+, 4 ID, 5 GND, SH1, SH2, SH3, SH4

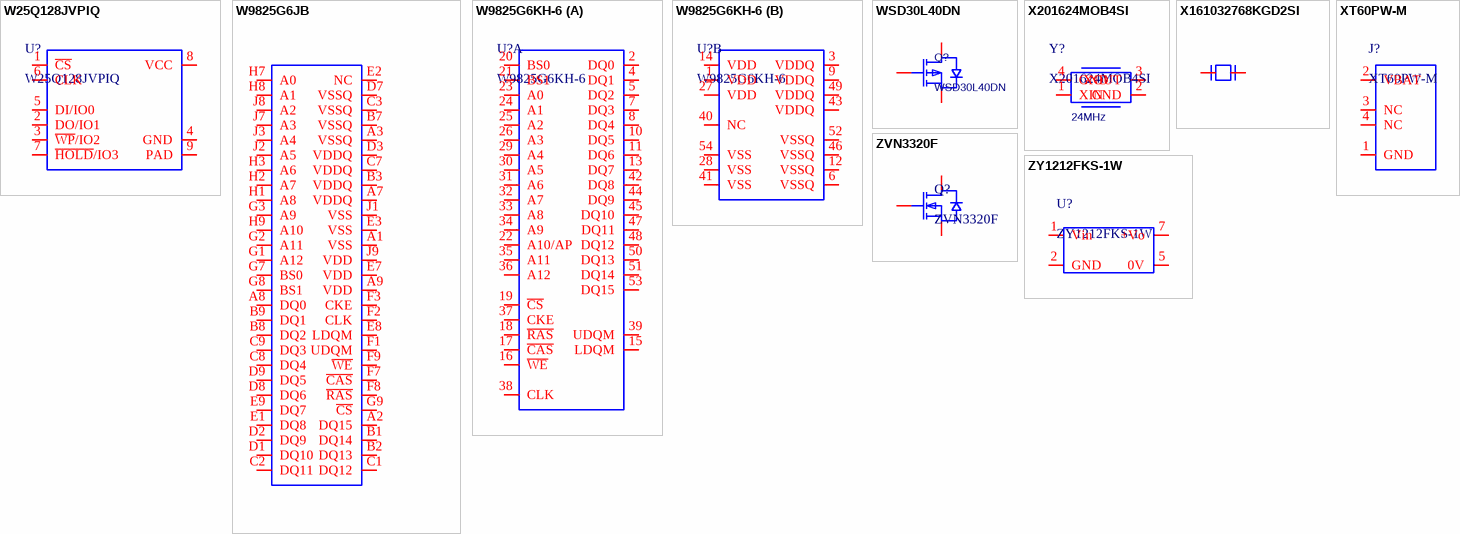
[diagram p7: symbols W25Q128JVPIQ to ZY1212FKS-1W]

## W25Q128JVPIQ
designator U?
NOR FLASH; Supplier 1: LCSC; Supplier Part Number 1: C190862
footprint W25Q128JVPIQ (SON, 8-Leads, Body 5.00x6.00mm, Pitch 1.27mm, Thermal Pad 4.30x3.40mm, IPC Medium Density)
pins: 1 ~{CS}, 2 DO/IO1, 3 ~{WP}/IO2, 4 GND, 5 DI/IO0, 6 CLK, 7 ~{HOLD}/IO3, 8 VCC, 9 PAD

## W9825G6JB
designator U?
SDRAM; Supplier 1: LCSC; Supplier Part Number 1: C2641239
footprint W9825G6JB (BGA, 81-Leads, Body 8.00x8.00mmx1.20mm, Pitch 0.80mm)
pins: A1 VSS, A2 DQ15, A3 VSSQ, A7 VDDQ, A8 DQ0, A9 VDD, B1 DQ14, B2 DQ13, B3 VDDQ, B7 VSSQ, B8 DQ2, B9 DQ1, C1 DQ12, C2 DQ11, C3 VSSQ, C7 VDDQ, C8 DQ4, C9 DQ3, D1 DQ10, D2 DQ9, D3 VDDQ, D7 VSSQ, D8 DQ6, D9 DQ5, E1 DQ8, E2 NC, E3 VSS, E7 VDD, E8 LDQM, E9 DQ7, F1 UDQM, F2 CLK, F3 CKE, F7 ~{CAS}, F8 ~{RAS}, F9 ~{WE}, G1 A12, G2 A11, G3 A9, G7 BS0, G8 BS1, G9 ~{CS}, H1 A8, H2 A7, H3 A6, H7 A0, H8 A1, H9 A10, J1 VSS, J2 A5, J3 A4, J7 A3, J8 A2, J9 VDD

## W9825G6KH-6
designator U?
SDRAM; Supplier 1: LCSC; Supplier Part Number 1: C62246
footprint W9825G6KH-6 (TSOP, 54-Leads, Body 22.22x10.16mm, Pitch 0.80mm, IPC Medium Density)
part A pins: 2 DQ0, 4 DQ1, 5 DQ2, 7 DQ3, 8 DQ4, 10 DQ5, 11 DQ6, 13 DQ7, 15 LDQM, 16 ~{WE}, 17 ~{CAS}, 18 ~{RAS}, 19 ~{CS}, 20 BS0, 21 BS1, 22 A10/AP, 23 A0, 24 A1, 25 A2, 26 A3, 29 A4, 30 A5, 31 A6, 32 A7, 33 A8, 34 A9, 35 A11, 36 A12, 37 CKE, 38 CLK, 39 UDQM, 42 DQ8, 44 DQ9, 45 DQ10, 47 DQ11, 48 DQ12, 50 DQ13, 51 DQ14, 53 DQ15
part B pins: 1 VDD, 3 VDDQ, 6 VSSQ, 9 VDDQ, 12 VSSQ, 14 VDD, 27 VDD, 28 VSS, 40 NC, 41 VSS, 43 VDDQ, 46 VSSQ, 49 VDDQ, 52 VSSQ, 54 VSS

## WSD30L40DN
designator Q?
PMOS; Supplier 1: LCSC; Supplier Part Number 1: C148390
footprint WSD30L40DN
pins: D, G, S

## X201624MOB4SI
designator Y?  value 24MHz
XTAL - passive, 24MHz, ±10ppm, 12pF; Supplier 1: LCSC; Supplier Part Number 1: C5210655
footprint X201624MOB4SI (DFN, 4-Leads, Body 2.00x1.60mm, Pitch 1.40mm, IPC Medium Density)
pins: 1 XIN, 2 GND, 3 XOUT, 4 GND

## X161032768KGD2SI
designator Y?
XTAL; frequency: 32.768; Supplier 1: LCSC; Supplier Part Number 1: C383847
footprint OSC3215
pins: 1, 2

## XT60PW-M
designator J?
CONNECTOR - 2pin, power; Supplier 1: LCSC; Supplier Part Number 1: C98732
footprint XT60PW-M
pins: 1 GND, 2 VBAT, 3 NC, 4 NC

## ZVN3320F
designator Q?
NMOS; Supplier 1: LCSC; Supplier Part Number 1: C260863
footprint SOT-23
pins: 1 G, 2 S, 3 D

## ZY1212FKS-1W
designator U?
PWR ISOLATOR; Supplier 1: LCSC; Supplier Part Number 1: C135852
footprint ZY1212FKS-1W
pins: 1 Vin, 2 GND, 5 0V, 7 +Vo